# EAGLE library part LTC1735 (library my_ic)
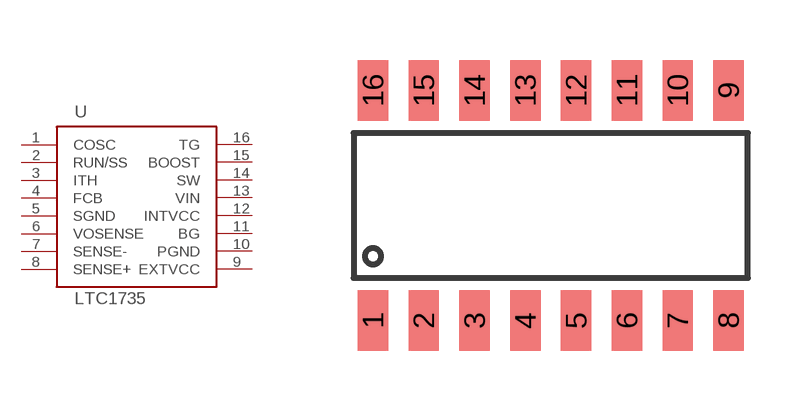
[diagram p17: symbol with the pads of SO16; footprint SO16]

Designator prefix -

## LTC1735CS  [SO16]
1  COSC
2  RUN/SS
3  ITH
4  FCB  in
5  SGND  pwr
6  VOSENSE  in
7  SENSE-  in
8  SENSE+  in
9  EXTVCC
10  PGND  pwr
11  BG  out
12  INTVCC  pwr
13  VIN  pwr
14  SW  pwr
15  BOOST  pwr
16  TG  out

## Footprint SO16 (pad centres in mm)
PLASTIC SMALL-OUTLINES PACKAGE D (R-PDSO-G16) Source: http://focus.ti.com/lit/ds/symlink/ina2126.pdf
smd 0.762 x 1.524: 1 -4.445,-2.875; 2 -3.175,-2.875; 3 -1.905,-2.875; 4 -0.635,-2.875; 5 0.635,-2.875; 6 1.905,-2.875; 7 3.175,-2.875; 8 4.445,-2.875; 9 4.445,2.875; 10 3.175,2.875; 11 1.905,2.875; 12 0.635,2.875; 13 -0.635,2.875; 14 -1.905,2.875; 15 -3.175,2.875; 16 -4.445,2.875